# EAGLE library part CONN-01X07 (library tmxk)
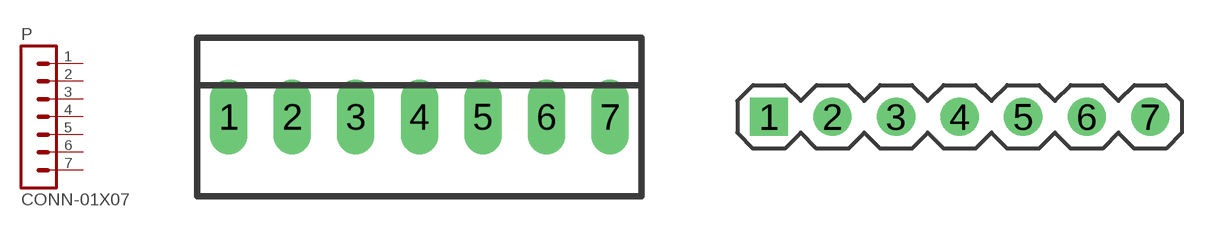
[diagram p12: symbol with the pads of XH2.54-7-DIP; footprints XH2.54-7-DIP, PIN-2.54MM-7P-1]

Designator prefix P

## CONN-01X07XH-2.54  [XH2.54-7-DIP]
1  1  pas
2  2  pas
3  3  pas
4  4  pas
5  5  pas
6  6  pas
7  7  pas

## CONN-01X07PIN-2.54  [PIN-2.54MM-7P-1]
Pads as for XH2.54-7-DIP

## CONN-01X07TX-1.25  [TX-1.25-7P]
Pads as for XH2.54-7-DIP

## CONN-01X07SMD-2.54  [XH2.54-7-SMD]
Pads as for XH2.54-7-DIP

## Footprint XH2.54-7-DIP (pad centres in mm)
.100" (2.54mm) Center Header - 7 Pin
drill 1 long: 1 -7.62,0; 2 -5.08,0; 3 -2.54,0; 4 0,0; 5 2.54,0; 6 5.08,0; 7 7.62,0

## Footprint PIN-2.54MM-7P-1 (pad centres in mm)
PIN HEADER
drill 1.016 square: 1 -7.62,0
drill 1.016: 2 -5.08,0; 3 -2.54,0; 4 0,0; 5 2.54,0; 6 5.08,0; 7 7.62,0

## Footprint TX-1.25-7P (pad centres in mm)
CONNECTOR wire to board 1.25 mm (.049 inch) pitch header SMT right angle
smd 0.8 x 2: 1 3.75,-2.5; 2 2.5,-2.5; 3 1.25,-2.5; 4 0,-2.5; 5 -1.25,-2.5; 6 -2.5,-2.5; 7 -3.75,-2.5
smd 2.1 x 3: S1 6.25,0.625; S2 -6.25,0.625

## Footprint XH2.54-7-SMD (pad centres in mm)
smd 1 x 4: 1 -7.62,4.54; 2 -5.08,4.54; 3 -2.54,4.54; 4 0,4.54; 5 2.54,4.54; 6 5.08,4.54; 7 7.62,4.54
smd 2 x 4: P$1 -9.12,-2.54; P$2 9.12,-2.54